# Altium schematic symbol library IC_CLOCK_PLL.SchLib: 1 symbol
Pins are listed as number, name and electrical type; pins without a type are passive.

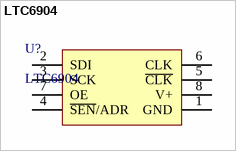
[diagram p0: symbol LTC6904]

## LTC6904
designator U?
1kHz to 68MHz Serial Port Programmable Oscillator; HelpURL: http://cds.linear.com/docs/en/datasheet/69034fe.pdf
footprint MSOP-8
pins: 1 GND, 2 SDI, 3 SCK, 4 ~{SEN}/ADR, 5 ~{CLK}, 6 CLK, 7 OE, 8 V+